# EAGLE library part I2C-MPL115A2 (library gclue)
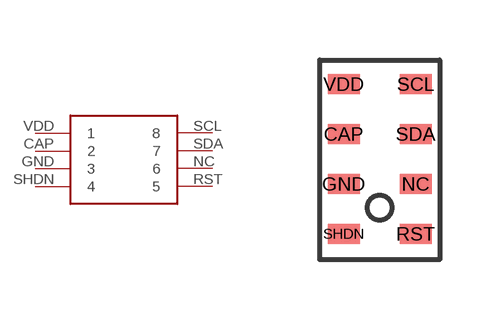
[diagram p12: symbol with the pads of I2C-MLP115A2; footprint I2C-MLP115A2]

Designator prefix -

## I2C-MPL115A2  [I2C-MLP115A2]
CAP  2
GND  3
NC  6
RST  5
SCL  8
SDA  7
SHDN  4
VDD  1

## Footprint I2C-MLP115A2 (pad centres in mm)
smd 0.8 x 0.5: CAP -0.9,0.65; GND -0.9,-0.6; NC 0.9,-0.6; RST 0.9,-1.85; SCL 0.9,1.9; SDA 0.9,0.65; SHDN -0.9,-1.85; VDD -0.9,1.9